# Altium schematic symbol library 5559IN73T OSM.Schlib: 1 symbol
Pins are listed as number, name and electrical type; pins without a type are passive.

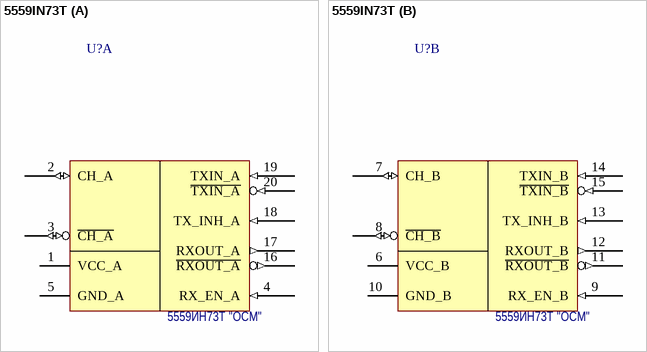
[diagram p0: symbol 5559IN73T]

## 5559IN73T
designator U?, comment Наименование: 5559ИН73Т "ОСМ"  (hidden comment: 5559IN73T_OSM)
Приемопередатчики манчестерского кода; Назначение: Приемопередатчик манчестерского кода; Потребление, Вт: 0.1; ComponentLink1Description: DataSheet; ComponentLink1URL: https://www.integral.by/sites/default/files/pdf/23_specifikaciya_5559in73t-74t.pdf
footprint 4153.20-6
part A pins: 1 VCC_A (power), 2 CH_A (io), 3 ~{CH_A} (io), 4 RX_EN_A (in), 5 GND_A (power), 16 ~{RXOUT_A} (out), 17 RXOUT_A (out), 18 TX_INH_A (in), 19 TXIN_A (in), 20 ~{TXIN_A} (in)
part B pins: 6 VCC_B (power), 7 CH_B (io), 8 ~{CH_B} (io), 9 RX_EN_B (in), 10 GND_B (power), 11 ~{RXOUT_B} (out), 12 RXOUT_B (out), 13 TX_INH_B (in), 14 TXIN_B (in), 15 ~{TXIN_B} (in)